# Altium integrated library XMOS xCORE-Analog.IntLib: 24 symbols (part 1 of 3)
Pins are listed as number, name and electrical type; pins without a type are passive.

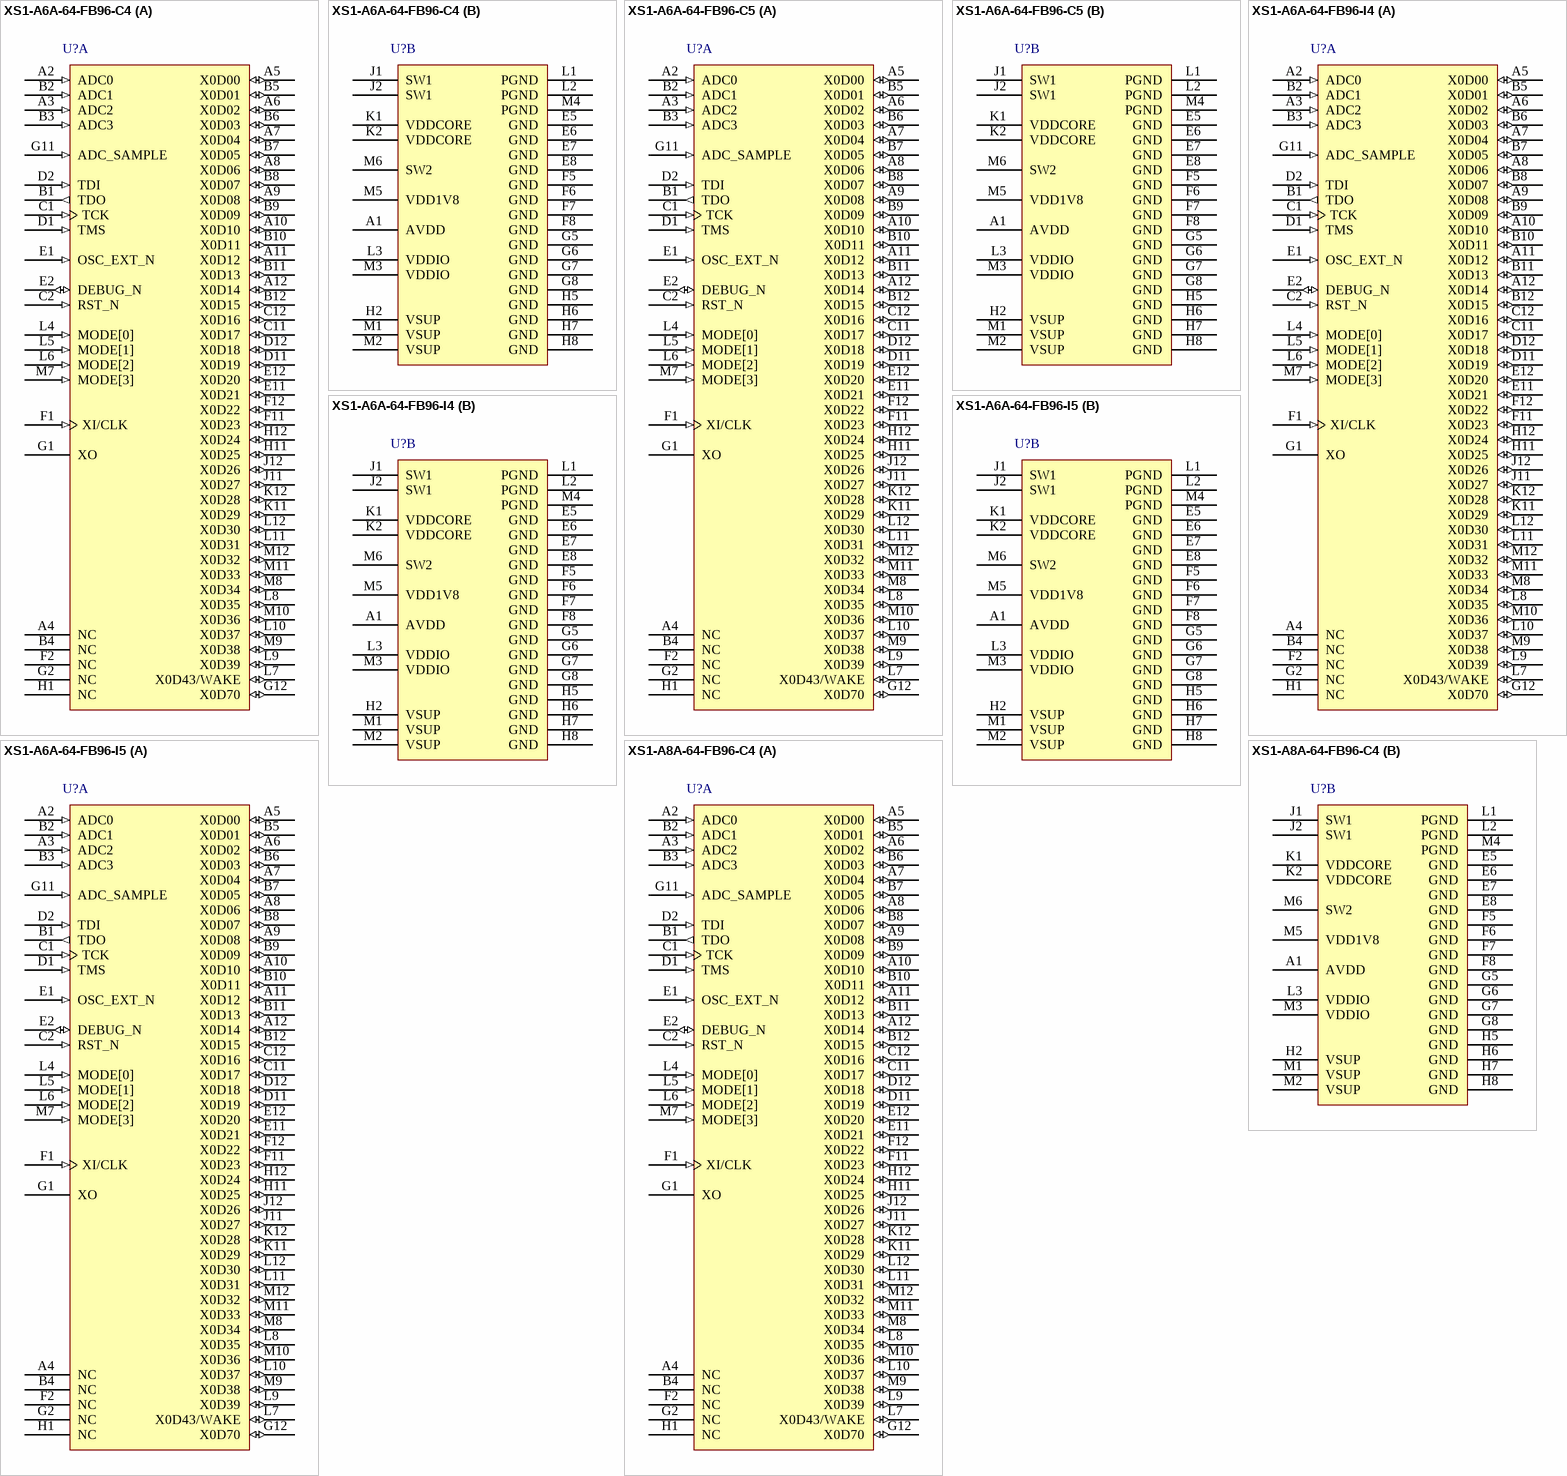
[diagram p0: symbols XS1-A6A-64-FB96-C4 to XS1-A8A-64-FB96-C4]

## XS1-A6A-64-FB96-C4
designator U?
6 Core XS1-A 32-bit Multicore Microcontroller, 42 I/O, 0 to 70 degC, 96-Pin FBGA, Pb-Free; PartNumber: XS1-A6A-64-FB96-C4; Cores/Tiles: 6/1; I/O: 42; RAM: 64 kB; Speed Grade: 400 MIPS; DatasheetVersion: Rev. X9530; PackageReference: FBGA-96; PackageDescription: 96-Pin Fine Ball Grid Array, Body 10 x 10 mm, Pitch 0.8 mm; Temperature Range: 0 to 70 degC; Mounting Technology: Surface Mount; Code_JEDEC: MO-275; ComponentLink1Description: Manufacturer URL; ComponentLink1URL: http://www.xmos.com/; ComponentLink2Description: Datasheet; ComponentLink2URL: https://www.xmos.com/en/download/public/XS1-A6A-64-FB96-Datasheet%28X9530H%29.pdf; ComponentLink3Description: Package Specification; ComponentLink3URL: https://www.xmos.com/en/download/public/XS1-U8A-64-FB96-Datasheet%28X6319F%29.pdf
footprint XMOS-FBGA-96 (BGA, 96-Balls, Body 10x10mm, Pitch 0.8mm)
part A pins: A2 ADC0 (in) "Analog input", A3 ADC2 (in) "Analog input", A4 NC, A5 X0D00 (io), A6 X0D02 (io), A7 X0D04 (io), A8 X0D06 (io), A9 X0D08 (io), A10 X0D10 (io), A11 X0D12 (io), A12 X0D14 (io), B1 TDO (out) "Test data output", B2 ADC1 (in) "Analog input", B3 ADC3 (in) "Analog input", B4 NC, B5 X0D01 (io), B6 X0D03 (io), B7 X0D05 (io), B8 X0D07 (io), B9 X0D09 (io), B10 X0D11 (io), B11 X0D13 (io), B12 X0D15 (io), C1 TCK (in) "Test clock", C2 RST_N (in) "Global reset input", C11 X0D17 (io), C12 X0D16 (io), D1 TMS (in) "Test mode select", D2 TDI (in) "Test data input", D11 X0D19 (io), D12 X0D18 (io), E1 OSC_EXT_N (in) "Use Silicon Oscillator", E2 DEBUG_N (io) "Multi-chip debug", E11 X0D21 (io), E12 X0D20 (io), F1 XI/CLK (in) "Crystal Oscillator/Clock Input", F2 NC, F11 X0D23 (io), F12 X0D22 (io), G1 XO "Crystal Oscillator Output", G2 NC, G11 ADC_SAMPLE (in) "Sample Analog input", G12 X0D70 (io), H1 NC, H11 X0D25 (io), H12 X0D24 (io), J11 X0D27 (io), J12 X0D26 (io), K11 X0D29 (io), K12 X0D28 (io), L4 MODE[0] (in) "Boot mode select", L5 MODE[1] (in) "Boot mode select", L6 MODE[2] (in) "Boot mode select", L7 X0D43/WAKE (io), L8 X0D35 (io), L9 X0D39 (io), L10 X0D37 (io), L11 X0D31 (io), L12 X0D30 (io), M7 MODE[3] (in) "Boot mode select", M8 X0D34 (io), M9 X0D38 (io), M10 X0D36 (io), M11 X0D33 (io), M12 X0D32 (io)
part B pins: A1 AVDD (power) "Supply and reference voltage", E5 GND (power) "Digital ground", E6 GND (power) "Digital ground", E7 GND (power) "Digital ground", E8 GND (power) "Digital ground", F5 GND (power) "Digital ground", F6 GND (power) "Digital ground", F7 GND (power) "Digital ground", F8 GND (power) "Digital ground", G5 GND (power) "Digital ground", G6 GND (power) "Digital ground", G7 GND (power) "Digital ground", G8 GND (power) "Digital ground", H2 VSUP (power) "Power supply (3V3/5V0)", H5 GND (power) "Digital ground", H6 GND (power) "Digital ground", H7 GND (power) "Digital ground", H8 GND (power) "Digital ground", J1 SW1 (power) "DCDC1 switched output voltage", J2 SW1 (power) "DCDC1 switched output voltage", K1 VDDCORE (power) "Core voltage supply", K2 VDDCORE (power) "Core voltage supply", L1 PGND (power) "Power ground", L2 PGND (power) "Power ground", L3 VDDIO (power) "Digital I/O power", M1 VSUP (power) "Power supply (3V3/5V0)", M2 VSUP (power) "Power supply (3V3/5V0)", M3 VDDIO (power) "Digital I/O power", M4 PGND (power) "Power ground", M5 VDD1V8 (power) "1v8 voltage supply", M6 SW2 (power) "DCDC2 switched output voltage"

## XS1-A6A-64-FB96-C5
designator U?
6 Core XS1-A 32-bit Multicore Microcontroller, 42 I/O, 0 to 70 degC, 96-Pin FBGA, Pb-Free; PartNumber: XS1-A6A-64-FB96-C5; Cores/Tiles: 6/1; I/O: 42; RAM: 64 kB; Speed Grade: 500 MIPS; DatasheetVersion: Rev. X9530; PackageReference: FBGA-96; PackageDescription: 96-Pin Fine Ball Grid Array, Body 10 x 10 mm, Pitch 0.8 mm; Temperature Range: 0 to 70 degC; Mounting Technology: Surface Mount; Code_JEDEC: MO-275; ComponentLink1Description: Manufacturer URL; ComponentLink1URL: http://www.xmos.com/; ComponentLink2Description: Datasheet; ComponentLink2URL: https://www.xmos.com/en/download/public/XS1-A6A-64-FB96-Datasheet%28X9530H%29.pdf; ComponentLink3Description: Package Specification; ComponentLink3URL: https://www.xmos.com/en/download/public/XS1-U8A-64-FB96-Datasheet%28X6319F%29.pdf
footprint XMOS-FBGA-96 (BGA, 96-Balls, Body 10x10mm, Pitch 0.8mm)
part A pins: A2 ADC0 (in) "Analog input", A3 ADC2 (in) "Analog input", A4 NC, A5 X0D00 (io), A6 X0D02 (io), A7 X0D04 (io), A8 X0D06 (io), A9 X0D08 (io), A10 X0D10 (io), A11 X0D12 (io), A12 X0D14 (io), B1 TDO (out) "Test data output", B2 ADC1 (in) "Analog input", B3 ADC3 (in) "Analog input", B4 NC, B5 X0D01 (io), B6 X0D03 (io), B7 X0D05 (io), B8 X0D07 (io), B9 X0D09 (io), B10 X0D11 (io), B11 X0D13 (io), B12 X0D15 (io), C1 TCK (in) "Test clock", C2 RST_N (in) "Global reset input", C11 X0D17 (io), C12 X0D16 (io), D1 TMS (in) "Test mode select", D2 TDI (in) "Test data input", D11 X0D19 (io), D12 X0D18 (io), E1 OSC_EXT_N (in) "Use Silicon Oscillator", E2 DEBUG_N (io) "Multi-chip debug", E11 X0D21 (io), E12 X0D20 (io), F1 XI/CLK (in) "Crystal Oscillator/Clock Input", F2 NC, F11 X0D23 (io), F12 X0D22 (io), G1 XO "Crystal Oscillator Output", G2 NC, G11 ADC_SAMPLE (in) "Sample Analog input", G12 X0D70 (io), H1 NC, H11 X0D25 (io), H12 X0D24 (io), J11 X0D27 (io), J12 X0D26 (io), K11 X0D29 (io), K12 X0D28 (io), L4 MODE[0] (in) "Boot mode select", L5 MODE[1] (in) "Boot mode select", L6 MODE[2] (in) "Boot mode select", L7 X0D43/WAKE (io), L8 X0D35 (io), L9 X0D39 (io), L10 X0D37 (io), L11 X0D31 (io), L12 X0D30 (io), M7 MODE[3] (in) "Boot mode select", M8 X0D34 (io), M9 X0D38 (io), M10 X0D36 (io), M11 X0D33 (io), M12 X0D32 (io)
part B pins: A1 AVDD (power) "Supply and reference voltage", E5 GND (power) "Digital ground", E6 GND (power) "Digital ground", E7 GND (power) "Digital ground", E8 GND (power) "Digital ground", F5 GND (power) "Digital ground", F6 GND (power) "Digital ground", F7 GND (power) "Digital ground", F8 GND (power) "Digital ground", G5 GND (power) "Digital ground", G6 GND (power) "Digital ground", G7 GND (power) "Digital ground", G8 GND (power) "Digital ground", H2 VSUP (power) "Power supply (3V3/5V0)", H5 GND (power) "Digital ground", H6 GND (power) "Digital ground", H7 GND (power) "Digital ground", H8 GND (power) "Digital ground", J1 SW1 (power) "DCDC1 switched output voltage", J2 SW1 (power) "DCDC1 switched output voltage", K1 VDDCORE (power) "Core voltage supply", K2 VDDCORE (power) "Core voltage supply", L1 PGND (power) "Power ground", L2 PGND (power) "Power ground", L3 VDDIO (power) "Digital I/O power", M1 VSUP (power) "Power supply (3V3/5V0)", M2 VSUP (power) "Power supply (3V3/5V0)", M3 VDDIO (power) "Digital I/O power", M4 PGND (power) "Power ground", M5 VDD1V8 (power) "1v8 voltage supply", M6 SW2 (power) "DCDC2 switched output voltage"

## XS1-A6A-64-FB96-I4
designator U?
6 Core XS1-A 32-bit Multicore Microcontroller, 42 I/O, -40 to 85 degC, 96-Pin FBGA, Pb-Free; PartNumber: XS1-A6A-64-FB96-I4; Cores/Tiles: 6/1; I/O: 42; RAM: 64 kB; Speed Grade: 400 MIPS; DatasheetVersion: Rev. X9530; PackageReference: FBGA-96; PackageDescription: 96-Pin Fine Ball Grid Array, Body 10 x 10 mm, Pitch 0.8 mm; Temperature Range: -40 to 85 degC; Mounting Technology: Surface Mount; Code_JEDEC: MO-275; ComponentLink1Description: Manufacturer URL; ComponentLink1URL: http://www.xmos.com/; ComponentLink2Description: Datasheet; ComponentLink2URL: https://www.xmos.com/en/download/public/XS1-A6A-64-FB96-Datasheet%28X9530H%29.pdf; ComponentLink3Description: Package Specification; ComponentLink3URL: https://www.xmos.com/en/download/public/XS1-U8A-64-FB96-Datasheet%28X6319F%29.pdf
footprint XMOS-FBGA-96 (BGA, 96-Balls, Body 10x10mm, Pitch 0.8mm)
part A pins: A2 ADC0 (in) "Analog input", A3 ADC2 (in) "Analog input", A4 NC, A5 X0D00 (io), A6 X0D02 (io), A7 X0D04 (io), A8 X0D06 (io), A9 X0D08 (io), A10 X0D10 (io), A11 X0D12 (io), A12 X0D14 (io), B1 TDO (out) "Test data output", B2 ADC1 (in) "Analog input", B3 ADC3 (in) "Analog input", B4 NC, B5 X0D01 (io), B6 X0D03 (io), B7 X0D05 (io), B8 X0D07 (io), B9 X0D09 (io), B10 X0D11 (io), B11 X0D13 (io), B12 X0D15 (io), C1 TCK (in) "Test clock", C2 RST_N (in) "Global reset input", C11 X0D17 (io), C12 X0D16 (io), D1 TMS (in) "Test mode select", D2 TDI (in) "Test data input", D11 X0D19 (io), D12 X0D18 (io), E1 OSC_EXT_N (in) "Use Silicon Oscillator", E2 DEBUG_N (io) "Multi-chip debug", E11 X0D21 (io), E12 X0D20 (io), F1 XI/CLK (in) "Crystal Oscillator/Clock Input", F2 NC, F11 X0D23 (io), F12 X0D22 (io), G1 XO "Crystal Oscillator Output", G2 NC, G11 ADC_SAMPLE (in) "Sample Analog input", G12 X0D70 (io), H1 NC, H11 X0D25 (io), H12 X0D24 (io), J11 X0D27 (io), J12 X0D26 (io), K11 X0D29 (io), K12 X0D28 (io), L4 MODE[0] (in) "Boot mode select", L5 MODE[1] (in) "Boot mode select", L6 MODE[2] (in) "Boot mode select", L7 X0D43/WAKE (io), L8 X0D35 (io), L9 X0D39 (io), L10 X0D37 (io), L11 X0D31 (io), L12 X0D30 (io), M7 MODE[3] (in) "Boot mode select", M8 X0D34 (io), M9 X0D38 (io), M10 X0D36 (io), M11 X0D33 (io), M12 X0D32 (io)
part B pins: A1 AVDD (power) "Supply and reference voltage", E5 GND (power) "Digital ground", E6 GND (power) "Digital ground", E7 GND (power) "Digital ground", E8 GND (power) "Digital ground", F5 GND (power) "Digital ground", F6 GND (power) "Digital ground", F7 GND (power) "Digital ground", F8 GND (power) "Digital ground", G5 GND (power) "Digital ground", G6 GND (power) "Digital ground", G7 GND (power) "Digital ground", G8 GND (power) "Digital ground", H2 VSUP (power) "Power supply (3V3/5V0)", H5 GND (power) "Digital ground", H6 GND (power) "Digital ground", H7 GND (power) "Digital ground", H8 GND (power) "Digital ground", J1 SW1 (power) "DCDC1 switched output voltage", J2 SW1 (power) "DCDC1 switched output voltage", K1 VDDCORE (power) "Core voltage supply", K2 VDDCORE (power) "Core voltage supply", L1 PGND (power) "Power ground", L2 PGND (power) "Power ground", L3 VDDIO (power) "Digital I/O power", M1 VSUP (power) "Power supply (3V3/5V0)", M2 VSUP (power) "Power supply (3V3/5V0)", M3 VDDIO (power) "Digital I/O power", M4 PGND (power) "Power ground", M5 VDD1V8 (power) "1v8 voltage supply", M6 SW2 (power) "DCDC2 switched output voltage"

## XS1-A6A-64-FB96-I5
designator U?
6 Core XS1-A 32-bit Multicore Microcontroller, 42 I/O, -40 to 85 degC, 96-Pin FBGA, Pb-Free; PartNumber: XS1-A6A-64-FB96-I5; Cores/Tiles: 6/1; I/O: 42; RAM: 64 kB; Speed Grade: 500 MIPS; DatasheetVersion: Rev. X9530; PackageReference: FBGA-96; PackageDescription: 96-Pin Fine Ball Grid Array, Body 10 x 10 mm, Pitch 0.8 mm; Temperature Range: -40 to 85 degC; Mounting Technology: Surface Mount; Code_JEDEC: MO-275; ComponentLink1Description: Manufacturer URL; ComponentLink1URL: http://www.xmos.com/; ComponentLink2Description: Datasheet; ComponentLink2URL: https://www.xmos.com/en/download/public/XS1-A6A-64-FB96-Datasheet%28X9530H%29.pdf; ComponentLink3Description: Package Specification; ComponentLink3URL: https://www.xmos.com/en/download/public/XS1-U8A-64-FB96-Datasheet%28X6319F%29.pdf
footprint XMOS-FBGA-96 (BGA, 96-Balls, Body 10x10mm, Pitch 0.8mm)
part A pins: A2 ADC0 (in) "Analog input", A3 ADC2 (in) "Analog input", A4 NC, A5 X0D00 (io), A6 X0D02 (io), A7 X0D04 (io), A8 X0D06 (io), A9 X0D08 (io), A10 X0D10 (io), A11 X0D12 (io), A12 X0D14 (io), B1 TDO (out) "Test data output", B2 ADC1 (in) "Analog input", B3 ADC3 (in) "Analog input", B4 NC, B5 X0D01 (io), B6 X0D03 (io), B7 X0D05 (io), B8 X0D07 (io), B9 X0D09 (io), B10 X0D11 (io), B11 X0D13 (io), B12 X0D15 (io), C1 TCK (in) "Test clock", C2 RST_N (in) "Global reset input", C11 X0D17 (io), C12 X0D16 (io), D1 TMS (in) "Test mode select", D2 TDI (in) "Test data input", D11 X0D19 (io), D12 X0D18 (io), E1 OSC_EXT_N (in) "Use Silicon Oscillator", E2 DEBUG_N (io) "Multi-chip debug", E11 X0D21 (io), E12 X0D20 (io), F1 XI/CLK (in) "Crystal Oscillator/Clock Input", F2 NC, F11 X0D23 (io), F12 X0D22 (io), G1 XO "Crystal Oscillator Output", G2 NC, G11 ADC_SAMPLE (in) "Sample Analog input", G12 X0D70 (io), H1 NC, H11 X0D25 (io), H12 X0D24 (io), J11 X0D27 (io), J12 X0D26 (io), K11 X0D29 (io), K12 X0D28 (io), L4 MODE[0] (in) "Boot mode select", L5 MODE[1] (in) "Boot mode select", L6 MODE[2] (in) "Boot mode select", L7 X0D43/WAKE (io), L8 X0D35 (io), L9 X0D39 (io), L10 X0D37 (io), L11 X0D31 (io), L12 X0D30 (io), M7 MODE[3] (in) "Boot mode select", M8 X0D34 (io), M9 X0D38 (io), M10 X0D36 (io), M11 X0D33 (io), M12 X0D32 (io)
part B pins: A1 AVDD (power) "Supply and reference voltage", E5 GND (power) "Digital ground", E6 GND (power) "Digital ground", E7 GND (power) "Digital ground", E8 GND (power) "Digital ground", F5 GND (power) "Digital ground", F6 GND (power) "Digital ground", F7 GND (power) "Digital ground", F8 GND (power) "Digital ground", G5 GND (power) "Digital ground", G6 GND (power) "Digital ground", G7 GND (power) "Digital ground", G8 GND (power) "Digital ground", H2 VSUP (power) "Power supply (3V3/5V0)", H5 GND (power) "Digital ground", H6 GND (power) "Digital ground", H7 GND (power) "Digital ground", H8 GND (power) "Digital ground", J1 SW1 (power) "DCDC1 switched output voltage", J2 SW1 (power) "DCDC1 switched output voltage", K1 VDDCORE (power) "Core voltage supply", K2 VDDCORE (power) "Core voltage supply", L1 PGND (power) "Power ground", L2 PGND (power) "Power ground", L3 VDDIO (power) "Digital I/O power", M1 VSUP (power) "Power supply (3V3/5V0)", M2 VSUP (power) "Power supply (3V3/5V0)", M3 VDDIO (power) "Digital I/O power", M4 PGND (power) "Power ground", M5 VDD1V8 (power) "1v8 voltage supply", M6 SW2 (power) "DCDC2 switched output voltage"

## XS1-A8A-64-FB96-C4
designator U?
8 Core XS1-A 32-bit Multicore Microcontroller, 42 I/O, 0 to 70 degC, 96-Pin FBGA, Pb-Free; PartNumber: XS1-A8A-64-FB96-C4; Cores/Tiles: 8/1; I/O: 42; RAM: 64 kB; Speed Grade: 400 MIPS; DatasheetVersion: Rev. X5391; PackageReference: FBGA-96; PackageDescription: 96-Pin Fine Ball Grid Array, Body 10 x 10 mm, Pitch 0.8 mm; Temperature Range: 0 to 70 degC; Mounting Technology: Surface Mount; Code_JEDEC: MO-275; ComponentLink1Description: Manufacturer URL; ComponentLink1URL: http://www.xmos.com/; ComponentLink2Description: Datasheet; ComponentLink2URL: https://www.xmos.com/en/download/public/XS1-A8A-64-FB96-Datasheet%28X5391H%29.pdf; ComponentLink3Description: Package Specification; ComponentLink3URL: https://www.xmos.com/en/download/public/XS1-U8A-64-FB96-Datasheet%28X6319F%29.pdf
footprint XMOS-FBGA-96 (BGA, 96-Balls, Body 10x10mm, Pitch 0.8mm)
part A pins: A2 ADC0 (in) "Analog input", A3 ADC2 (in) "Analog input", A4 NC, A5 X0D00 (io), A6 X0D02 (io), A7 X0D04 (io), A8 X0D06 (io), A9 X0D08 (io), A10 X0D10 (io), A11 X0D12 (io), A12 X0D14 (io), B1 TDO (out) "Test data output", B2 ADC1 (in) "Analog input", B3 ADC3 (in) "Analog input", B4 NC, B5 X0D01 (io), B6 X0D03 (io), B7 X0D05 (io), B8 X0D07 (io), B9 X0D09 (io), B10 X0D11 (io), B11 X0D13 (io), B12 X0D15 (io), C1 TCK (in) "Test clock", C2 RST_N (in) "Global reset input", C11 X0D17 (io), C12 X0D16 (io), D1 TMS (in) "Test mode select", D2 TDI (in) "Test data input", D11 X0D19 (io), D12 X0D18 (io), E1 OSC_EXT_N (in) "Use Silicon Oscillator", E2 DEBUG_N (io) "Multi-chip debug", E11 X0D21 (io), E12 X0D20 (io), F1 XI/CLK (in) "Crystal Oscillator/Clock Input", F2 NC, F11 X0D23 (io), F12 X0D22 (io), G1 XO "Crystal Oscillator Output", G2 NC, G11 ADC_SAMPLE (in) "Sample Analog input", G12 X0D70 (io), H1 NC, H11 X0D25 (io), H12 X0D24 (io), J11 X0D27 (io), J12 X0D26 (io), K11 X0D29 (io), K12 X0D28 (io), L4 MODE[0] (in) "Boot mode select", L5 MODE[1] (in) "Boot mode select", L6 MODE[2] (in) "Boot mode select", L7 X0D43/WAKE (io), L8 X0D35 (io), L9 X0D39 (io), L10 X0D37 (io), L11 X0D31 (io), L12 X0D30 (io), M7 MODE[3] (in) "Boot mode select", M8 X0D34 (io), M9 X0D38 (io), M10 X0D36 (io), M11 X0D33 (io), M12 X0D32 (io)
part B pins: A1 AVDD (power) "Supply and reference voltage", E5 GND (power) "Digital ground", E6 GND (power) "Digital ground", E7 GND (power) "Digital ground", E8 GND (power) "Digital ground", F5 GND (power) "Digital ground", F6 GND (power) "Digital ground", F7 GND (power) "Digital ground", F8 GND (power) "Digital ground", G5 GND (power) "Digital ground", G6 GND (power) "Digital ground", G7 GND (power) "Digital ground", G8 GND (power) "Digital ground", H2 VSUP (power) "Power supply (3V3/5V0)", H5 GND (power) "Digital ground", H6 GND (power) "Digital ground", H7 GND (power) "Digital ground", H8 GND (power) "Digital ground", J1 SW1 (power) "DCDC1 switched output voltage", J2 SW1 (power) "DCDC1 switched output voltage", K1 VDDCORE (power) "Core voltage supply", K2 VDDCORE (power) "Core voltage supply", L1 PGND (power) "Power ground", L2 PGND (power) "Power ground", L3 VDDIO (power) "Digital I/O power", M1 VSUP (power) "Power supply (3V3/5V0)", M2 VSUP (power) "Power supply (3V3/5V0)", M3 VDDIO (power) "Digital I/O power", M4 PGND (power) "Power ground", M5 VDD1V8 (power) "1v8 voltage supply", M6 SW2 (power) "DCDC2 switched output voltage"

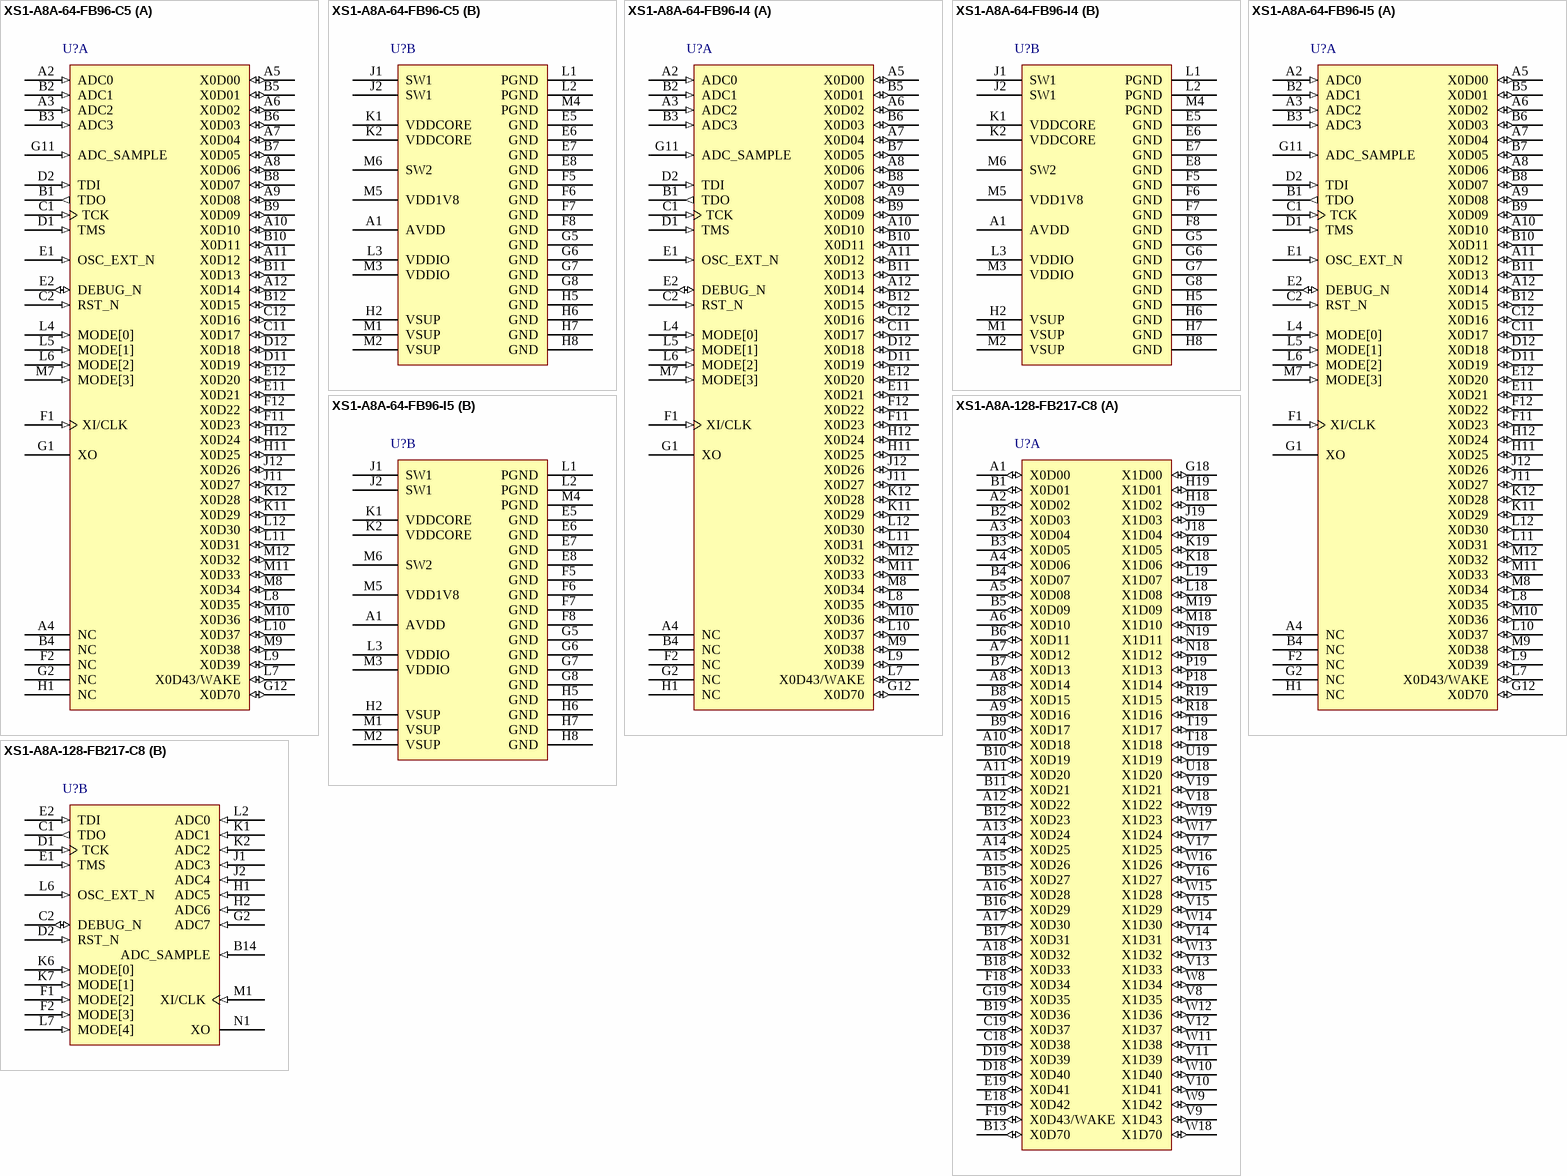
[diagram p1: symbols XS1-A8A-64-FB96-C5 to XS1-A8A-128-FB217-C8]

## XS1-A8A-64-FB96-C5
designator U?
8 Core XS1-A 32-bit Multicore Microcontroller, 42 I/O, 0 to 70 degC, 96-Pin FBGA, Pb-Free; PartNumber: XS1-A8A-64-FB96-C5; Cores/Tiles: 8/1; I/O: 42; RAM: 64 kB; Speed Grade: 500 MIPS; DatasheetVersion: Rev. X5391; PackageReference: FBGA-96; PackageDescription: 96-Pin Fine Ball Grid Array, Body 10 x 10 mm, Pitch 0.8 mm; Temperature Range: 0 to 70 degC; Mounting Technology: Surface Mount; Code_JEDEC: MO-275; ComponentLink1Description: Manufacturer URL; ComponentLink1URL: http://www.xmos.com/; ComponentLink2Description: Datasheet; ComponentLink2URL: https://www.xmos.com/en/download/public/XS1-A8A-64-FB96-Datasheet%28X5391H%29.pdf; ComponentLink3Description: Package Specification; ComponentLink3URL: https://www.xmos.com/en/download/public/XS1-U8A-64-FB96-Datasheet%28X6319F%29.pdf
footprint XMOS-FBGA-96 (BGA, 96-Balls, Body 10x10mm, Pitch 0.8mm)
part A pins: A2 ADC0 (in) "Analog input", A3 ADC2 (in) "Analog input", A4 NC, A5 X0D00 (io), A6 X0D02 (io), A7 X0D04 (io), A8 X0D06 (io), A9 X0D08 (io), A10 X0D10 (io), A11 X0D12 (io), A12 X0D14 (io), B1 TDO (out) "Test data output", B2 ADC1 (in) "Analog input", B3 ADC3 (in) "Analog input", B4 NC, B5 X0D01 (io), B6 X0D03 (io), B7 X0D05 (io), B8 X0D07 (io), B9 X0D09 (io), B10 X0D11 (io), B11 X0D13 (io), B12 X0D15 (io), C1 TCK (in) "Test clock", C2 RST_N (in) "Global reset input", C11 X0D17 (io), C12 X0D16 (io), D1 TMS (in) "Test mode select", D2 TDI (in) "Test data input", D11 X0D19 (io), D12 X0D18 (io), E1 OSC_EXT_N (in) "Use Silicon Oscillator", E2 DEBUG_N (io) "Multi-chip debug", E11 X0D21 (io), E12 X0D20 (io), F1 XI/CLK (in) "Crystal Oscillator/Clock Input", F2 NC, F11 X0D23 (io), F12 X0D22 (io), G1 XO "Crystal Oscillator Output", G2 NC, G11 ADC_SAMPLE (in) "Sample Analog input", G12 X0D70 (io), H1 NC, H11 X0D25 (io), H12 X0D24 (io), J11 X0D27 (io), J12 X0D26 (io), K11 X0D29 (io), K12 X0D28 (io), L4 MODE[0] (in) "Boot mode select", L5 MODE[1] (in) "Boot mode select", L6 MODE[2] (in) "Boot mode select", L7 X0D43/WAKE (io), L8 X0D35 (io), L9 X0D39 (io), L10 X0D37 (io), L11 X0D31 (io), L12 X0D30 (io), M7 MODE[3] (in) "Boot mode select", M8 X0D34 (io), M9 X0D38 (io), M10 X0D36 (io), M11 X0D33 (io), M12 X0D32 (io)
part B pins: A1 AVDD (power) "Supply and reference voltage", E5 GND (power) "Digital ground", E6 GND (power) "Digital ground", E7 GND (power) "Digital ground", E8 GND (power) "Digital ground", F5 GND (power) "Digital ground", F6 GND (power) "Digital ground", F7 GND (power) "Digital ground", F8 GND (power) "Digital ground", G5 GND (power) "Digital ground", G6 GND (power) "Digital ground", G7 GND (power) "Digital ground", G8 GND (power) "Digital ground", H2 VSUP (power) "Power supply (3V3/5V0)", H5 GND (power) "Digital ground", H6 GND (power) "Digital ground", H7 GND (power) "Digital ground", H8 GND (power) "Digital ground", J1 SW1 (power) "DCDC1 switched output voltage", J2 SW1 (power) "DCDC1 switched output voltage", K1 VDDCORE (power) "Core voltage supply", K2 VDDCORE (power) "Core voltage supply", L1 PGND (power) "Power ground", L2 PGND (power) "Power ground", L3 VDDIO (power) "Digital I/O power", M1 VSUP (power) "Power supply (3V3/5V0)", M2 VSUP (power) "Power supply (3V3/5V0)", M3 VDDIO (power) "Digital I/O power", M4 PGND (power) "Power ground", M5 VDD1V8 (power) "1v8 voltage supply", M6 SW2 (power) "DCDC2 switched output voltage"

## XS1-A8A-64-FB96-I4
designator U?
8 Core XS1-A 32-bit Multicore Microcontroller, 42 I/O, -40 to 85 degC, 96-Pin FBGA, Pb-Free; PartNumber: XS1-A8A-64-FB96-I4; Cores/Tiles: 8/1; I/O: 42; RAM: 64 kB; Speed Grade: 400 MIPS; DatasheetVersion: Rev. X5391; PackageReference: FBGA-96; PackageDescription: 96-Pin Fine Ball Grid Array, Body 10 x 10 mm, Pitch 0.8 mm; Temperature Range: -40 to 85 degC; Mounting Technology: Surface Mount; Code_JEDEC: MO-275; ComponentLink1Description: Manufacturer URL; ComponentLink1URL: http://www.xmos.com/; ComponentLink2Description: Datasheet; ComponentLink2URL: https://www.xmos.com/en/download/public/XS1-A8A-64-FB96-Datasheet%28X5391H%29.pdf; ComponentLink3Description: Package Specification; ComponentLink3URL: https://www.xmos.com/en/download/public/XS1-U8A-64-FB96-Datasheet%28X6319F%29.pdf
footprint XMOS-FBGA-96 (BGA, 96-Balls, Body 10x10mm, Pitch 0.8mm)
part A pins: A2 ADC0 (in) "Analog input", A3 ADC2 (in) "Analog input", A4 NC, A5 X0D00 (io), A6 X0D02 (io), A7 X0D04 (io), A8 X0D06 (io), A9 X0D08 (io), A10 X0D10 (io), A11 X0D12 (io), A12 X0D14 (io), B1 TDO (out) "Test data output", B2 ADC1 (in) "Analog input", B3 ADC3 (in) "Analog input", B4 NC, B5 X0D01 (io), B6 X0D03 (io), B7 X0D05 (io), B8 X0D07 (io), B9 X0D09 (io), B10 X0D11 (io), B11 X0D13 (io), B12 X0D15 (io), C1 TCK (in) "Test clock", C2 RST_N (in) "Global reset input", C11 X0D17 (io), C12 X0D16 (io), D1 TMS (in) "Test mode select", D2 TDI (in) "Test data input", D11 X0D19 (io), D12 X0D18 (io), E1 OSC_EXT_N (in) "Use Silicon Oscillator", E2 DEBUG_N (io) "Multi-chip debug", E11 X0D21 (io), E12 X0D20 (io), F1 XI/CLK (in) "Crystal Oscillator/Clock Input", F2 NC, F11 X0D23 (io), F12 X0D22 (io), G1 XO "Crystal Oscillator Output", G2 NC, G11 ADC_SAMPLE (in) "Sample Analog input", G12 X0D70 (io), H1 NC, H11 X0D25 (io), H12 X0D24 (io), J11 X0D27 (io), J12 X0D26 (io), K11 X0D29 (io), K12 X0D28 (io), L4 MODE[0] (in) "Boot mode select", L5 MODE[1] (in) "Boot mode select", L6 MODE[2] (in) "Boot mode select", L7 X0D43/WAKE (io), L8 X0D35 (io), L9 X0D39 (io), L10 X0D37 (io), L11 X0D31 (io), L12 X0D30 (io), M7 MODE[3] (in) "Boot mode select", M8 X0D34 (io), M9 X0D38 (io), M10 X0D36 (io), M11 X0D33 (io), M12 X0D32 (io)
part B pins: A1 AVDD (power) "Supply and reference voltage", E5 GND (power) "Digital ground", E6 GND (power) "Digital ground", E7 GND (power) "Digital ground", E8 GND (power) "Digital ground", F5 GND (power) "Digital ground", F6 GND (power) "Digital ground", F7 GND (power) "Digital ground", F8 GND (power) "Digital ground", G5 GND (power) "Digital ground", G6 GND (power) "Digital ground", G7 GND (power) "Digital ground", G8 GND (power) "Digital ground", H2 VSUP (power) "Power supply (3V3/5V0)", H5 GND (power) "Digital ground", H6 GND (power) "Digital ground", H7 GND (power) "Digital ground", H8 GND (power) "Digital ground", J1 SW1 (power) "DCDC1 switched output voltage", J2 SW1 (power) "DCDC1 switched output voltage", K1 VDDCORE (power) "Core voltage supply", K2 VDDCORE (power) "Core voltage supply", L1 PGND (power) "Power ground", L2 PGND (power) "Power ground", L3 VDDIO (power) "Digital I/O power", M1 VSUP (power) "Power supply (3V3/5V0)", M2 VSUP (power) "Power supply (3V3/5V0)", M3 VDDIO (power) "Digital I/O power", M4 PGND (power) "Power ground", M5 VDD1V8 (power) "1v8 voltage supply", M6 SW2 (power) "DCDC2 switched output voltage"

## XS1-A8A-64-FB96-I5
designator U?
8 Core XS1-A 32-bit Multicore Microcontroller, 42 I/O, -40 to 85 degC, 96-Pin FBGA, Pb-Free; PartNumber: XS1-A8A-64-FB96-I5; Cores/Tiles: 8/1; I/O: 42; RAM: 64 kB; Speed Grade: 500 MIPS; DatasheetVersion: Rev. X5391; PackageReference: FBGA-96; PackageDescription: 96-Pin Fine Ball Grid Array, Body 10 x 10 mm, Pitch 0.8 mm; Temperature Range: -40 to 85 degC; Mounting Technology: Surface Mount; Code_JEDEC: MO-275; ComponentLink1Description: Manufacturer URL; ComponentLink1URL: http://www.xmos.com/; ComponentLink2Description: Datasheet; ComponentLink2URL: https://www.xmos.com/en/download/public/XS1-A8A-64-FB96-Datasheet%28X5391H%29.pdf; ComponentLink3Description: Package Specification; ComponentLink3URL: https://www.xmos.com/en/download/public/XS1-U8A-64-FB96-Datasheet%28X6319F%29.pdf
footprint XMOS-FBGA-96 (BGA, 96-Balls, Body 10x10mm, Pitch 0.8mm)
part A pins: A2 ADC0 (in) "Analog input", A3 ADC2 (in) "Analog input", A4 NC, A5 X0D00 (io), A6 X0D02 (io), A7 X0D04 (io), A8 X0D06 (io), A9 X0D08 (io), A10 X0D10 (io), A11 X0D12 (io), A12 X0D14 (io), B1 TDO (out) "Test data output", B2 ADC1 (in) "Analog input", B3 ADC3 (in) "Analog input", B4 NC, B5 X0D01 (io), B6 X0D03 (io), B7 X0D05 (io), B8 X0D07 (io), B9 X0D09 (io), B10 X0D11 (io), B11 X0D13 (io), B12 X0D15 (io), C1 TCK (in) "Test clock", C2 RST_N (in) "Global reset input", C11 X0D17 (io), C12 X0D16 (io), D1 TMS (in) "Test mode select", D2 TDI (in) "Test data input", D11 X0D19 (io), D12 X0D18 (io), E1 OSC_EXT_N (in) "Use Silicon Oscillator", E2 DEBUG_N (io) "Multi-chip debug", E11 X0D21 (io), E12 X0D20 (io), F1 XI/CLK (in) "Crystal Oscillator/Clock Input", F2 NC, F11 X0D23 (io), F12 X0D22 (io), G1 XO "Crystal Oscillator Output", G2 NC, G11 ADC_SAMPLE (in) "Sample Analog input", G12 X0D70 (io), H1 NC, H11 X0D25 (io), H12 X0D24 (io), J11 X0D27 (io), J12 X0D26 (io), K11 X0D29 (io), K12 X0D28 (io), L4 MODE[0] (in) "Boot mode select", L5 MODE[1] (in) "Boot mode select", L6 MODE[2] (in) "Boot mode select", L7 X0D43/WAKE (io), L8 X0D35 (io), L9 X0D39 (io), L10 X0D37 (io), L11 X0D31 (io), L12 X0D30 (io), M7 MODE[3] (in) "Boot mode select", M8 X0D34 (io), M9 X0D38 (io), M10 X0D36 (io), M11 X0D33 (io), M12 X0D32 (io)
part B pins: A1 AVDD (power) "Supply and reference voltage", E5 GND (power) "Digital ground", E6 GND (power) "Digital ground", E7 GND (power) "Digital ground", E8 GND (power) "Digital ground", F5 GND (power) "Digital ground", F6 GND (power) "Digital ground", F7 GND (power) "Digital ground", F8 GND (power) "Digital ground", G5 GND (power) "Digital ground", G6 GND (power) "Digital ground", G7 GND (power) "Digital ground", G8 GND (power) "Digital ground", H2 VSUP (power) "Power supply (3V3/5V0)", H5 GND (power) "Digital ground", H6 GND (power) "Digital ground", H7 GND (power) "Digital ground", H8 GND (power) "Digital ground", J1 SW1 (power) "DCDC1 switched output voltage", J2 SW1 (power) "DCDC1 switched output voltage", K1 VDDCORE (power) "Core voltage supply", K2 VDDCORE (power) "Core voltage supply", L1 PGND (power) "Power ground", L2 PGND (power) "Power ground", L3 VDDIO (power) "Digital I/O power", M1 VSUP (power) "Power supply (3V3/5V0)", M2 VSUP (power) "Power supply (3V3/5V0)", M3 VDDIO (power) "Digital I/O power", M4 PGND (power) "Power ground", M5 VDD1V8 (power) "1v8 voltage supply", M6 SW2 (power) "DCDC2 switched output voltage"

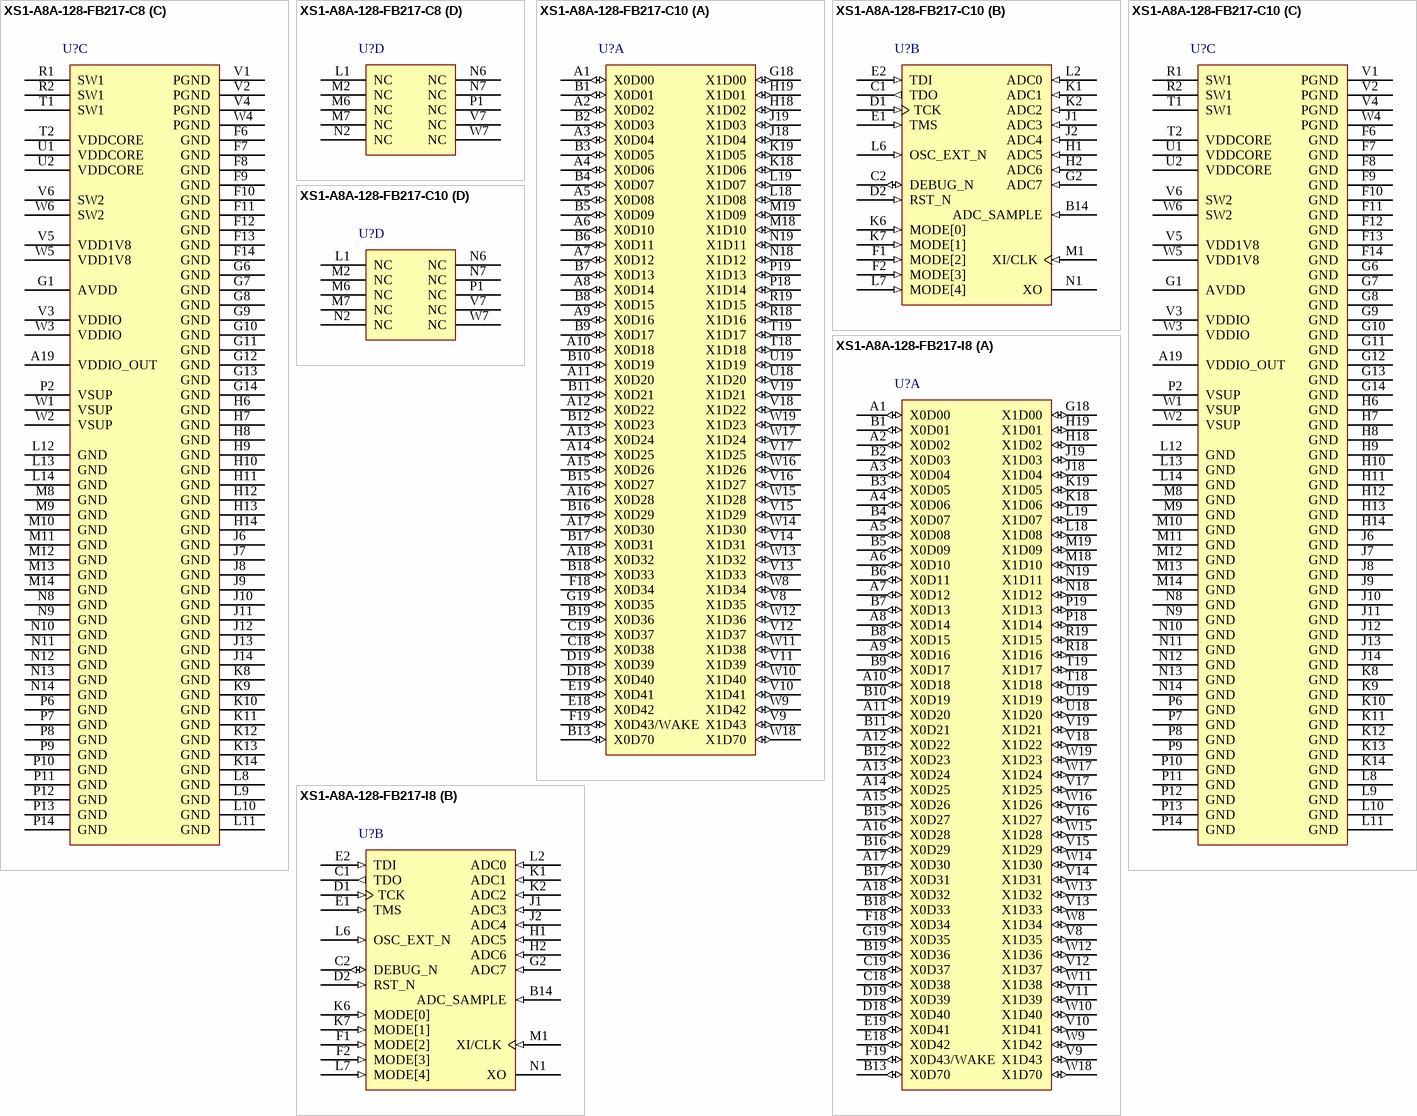
[diagram p2: symbols XS1-A8A-128-FB217-C8 to XS1-A8A-128-FB217-I8]

## XS1-A8A-128-FB217-C8
designator U?
8 Core XS1-A 32-bit Multicore Microcontroller, 90 I/O, 0 to 70 degC, 217-Pin FBGA, Pb-Free; PartNumber: XS1-A8A-128-FB217-C8; Cores/Tiles: 8/2; I/O: 90; RAM: 128 kB; Speed Grade: 800 MIPS; DatasheetVersion: Rev. X5601; PackageReference: FBGA-217; PackageDescription: 217-Pin Fine Ball Grid Array, Body 16 x 16 mm, Pitch 0.8 mm; Temperature Range: 0 to 70 degC; Mounting Technology: Surface Mount; Code_JEDEC: MO-275; ComponentLink1Description: Manufacturer URL; ComponentLink1URL: http://www.xmos.com/; ComponentLink2Description: Datasheet; ComponentLink2URL: https://www.xmos.com/en/download/public/XS1-A8A-128-FB217-Datasheet%28X5601H%29.pdf; ComponentLink3Description: Package Specification; ComponentLink3URL: https://www.xmos.com/en/download/public/XS1-A16A-128-FB217-Datasheet%28X5719H%29.pdf
footprint XMOS-FBGA-217 (BGA, 217-Balls, Body 16x16mm, Pitch 0.8mm)
part A pins: A1 X0D00 (io), A2 X0D02 (io), A3 X0D04 (io), A4 X0D06 (io), A5 X0D08 (io), A6 X0D10 (io), A7 X0D12 (io), A8 X0D14 (io), A9 X0D16 (io), A10 X0D18 (io), A11 X0D20 (io), A12 X0D22 (io), A13 X0D24 (io), A14 X0D25 (io), A15 X0D26 (io), A16 X0D28 (io), A17 X0D30 (io), A18 X0D32 (io), B1 X0D01 (io), B2 X0D03 (io), B3 X0D05 (io), B4 X0D07 (io), B5 X0D09 (io), B6 X0D11 (io), B7 X0D13 (io), B8 X0D15 (io), B9 X0D17 (io), B10 X0D19 (io), B11 X0D21 (io), B12 X0D23 (io), B13 X0D70 (io), B15 X0D27 (io), B16 X0D29 (io), B17 X0D31 (io), B18 X0D33 (io), B19 X0D36 (io), C18 X0D38 (io), C19 X0D37 (io), D18 X0D40 (io), D19 X0D39 (io), E18 X0D42 (io), E19 X0D41 (io), F18 X0D34 (io), F19 X0D43/WAKE (io), G18 X1D00 (io), G19 X0D35 (io), H18 X1D02 (io), H19 X1D01 (io), J18 X1D04 (io), J19 X1D03 (io), K18 X1D06 (io), K19 X1D05 (io), L18 X1D08 (io), L19 X1D07 (io), M18 X1D10 (io), M19 X1D09 (io), N18 X1D12 (io), N19 X1D11 (io), P18 X1D14 (io), P19 X1D13 (io), R18 X1D16 (io), R19 X1D15 (io), T18 X1D18 (io), T19 X1D17 (io), U18 X1D20 (io), U19 X1D19 (io), V8 X1D35 (io), V9 X1D43 (io), V10 X1D41 (io), V11 X1D39 (io), V12 X1D37 (io), V13 X1D33 (io), V14 X1D31 (io), V15 X1D29 (io), V16 X1D27 (io), V17 X1D25 (io), V18 X1D22 (io), V19 X1D21 (io), W8 X1D34 (io), W9 X1D42 (io), W10 X1D40 (io), W11 X1D38 (io), W12 X1D36 (io), W13 X1D32 (io), W14 X1D30 (io), W15 X1D28 (io), W16 X1D26 (io), W17 X1D24 (io), W18 X1D70 (io), W19 X1D23 (io)
part B pins: B14 ADC_SAMPLE (in) "Sample Analog input", C1 TDO (out) "Test data output", C2 DEBUG_N (io) "Multi-chip debug", D1 TCK (in) "Test clock", D2 RST_N (in) "Global reset input", E1 TMS (in) "Test mode select", E2 TDI (in) "Test data input", F1 MODE[2] (in) "Boot mode select", F2 MODE[3] (in) "Boot mode select", G2 ADC7 (in) "Analog input", H1 ADC5 (in) "Analog input", H2 ADC6 (in) "Analog input", J1 ADC3 (in) "Analog input", J2 ADC4 (in) "Analog input", K1 ADC1 (in) "Analog input", K2 ADC2 (in) "Analog input", K6 MODE[0] (in) "Boot mode select", K7 MODE[1] (in) "Boot mode select", L2 ADC0 (in) "Analog input", L6 OSC_EXT_N (in) "Use Silicon Oscillator", L7 MODE[4] (in) "Boot mode select", M1 XI/CLK (in) "Crystal Oscillator/Clock Input", N1 XO "Crystal Oscillator Output"
part C pins: A19 VDDIO_OUT (power) "Digital I/O power out", F6 GND (power) "Digital ground", F7 GND (power) "Digital ground", F8 GND (power) "Digital ground", F9 GND (power) "Digital ground", F10 GND (power) "Digital ground", F11 GND (power) "Digital ground", F12 GND (power) "Digital ground", F13 GND (power) "Digital ground", F14 GND (power) "Digital ground", G1 AVDD (power) "Supply and reference voltage", G6 GND (power) "Digital ground", G7 GND (power) "Digital ground", G8 GND (power) "Digital ground", G9 GND (power) "Digital ground", G10 GND (power) "Digital ground", G11 GND (power) "Digital ground", G12 GND (power) "Digital ground", G13 GND (power) "Digital ground", G14 GND (power) "Digital ground", H6 GND (power) "Digital ground", H7 GND (power) "Digital ground", H8 GND (power) "Digital ground", H9 GND (power) "Digital ground", H10 GND (power) "Digital ground", H11 GND (power) "Digital ground", H12 GND (power) "Digital ground", H13 GND (power) "Digital ground", H14 GND (power) "Digital ground", J6 GND (power) "Digital ground", J7 GND (power) "Digital ground", J8 GND (power) "Digital ground", J9 GND (power) "Digital ground", J10 GND (power) "Digital ground", J11 GND (power) "Digital ground", J12 GND (power) "Digital ground", J13 GND (power) "Digital ground", J14 GND (power) "Digital ground", K8 GND (power) "Digital ground", K9 GND (power) "Digital ground", K10 GND (power) "Digital ground", K11 GND (power) "Digital ground", K12 GND (power) "Digital ground", K13 GND (power) "Digital ground", K14 GND (power) "Digital ground", L8 GND (power) "Digital ground", L9 GND (power) "Digital ground", L10 GND (power) "Digital ground", L11 GND (power) "Digital ground", L12 GND (power) "Digital ground", L13 GND (power) "Digital ground", L14 GND (power) "Digital ground", M8 GND (power) "Digital ground", M9 GND (power) "Digital ground", M10 GND (power) "Digital ground", M11 GND (power) "Digital ground", M12 GND (power) "Digital ground", M13 GND (power) "Digital ground", M14 GND (power) "Digital ground", N8 GND (power) "Digital ground", N9 GND (power) "Digital ground", N10 GND (power) "Digital ground", N11 GND (power) "Digital ground", N12 GND (power) "Digital ground", N13 GND (power) "Digital ground", N14 GND (power) "Digital ground", P2 VSUP (power) "Power supply (3V3/5V0)", P6 GND (power) "Digital ground", P7 GND (power) "Digital ground", P8 GND (power) "Digital ground", P9 GND (power) "Digital ground", P10 GND (power) "Digital ground", P11 GND (power) "Digital ground", P12 GND (power) "Digital ground", P13 GND (power) "Digital ground", P14 GND (power) "Digital ground", R1 SW1 (power) "DCDC1 switched output voltage", R2 SW1 (power) "DCDC1 switched output voltage", T1 SW1 (power) "DCDC1 switched output voltage", T2 VDDCORE (power) "Core voltage supply", U1 VDDCORE (power) "Core voltage supply", U2 VDDCORE (power) "Core voltage supply", V1 PGND (power) "Power ground", V2 PGND (power) "Power ground", V3 VDDIO (power) "Digital I/O power", V4 PGND (power) "Power ground", V5 VDD1V8 (power) "1v8 voltage supply", V6 SW2 (power) "DCDC2 switched output voltage", W1 VSUP (power) "Power supply (3V3/5V0)", W2 VSUP (power) "Power supply (3V3/5V0)", W3 VDDIO (power) "Digital I/O power", W4 PGND (power) "Power ground", W5 VDD1V8 (power) "1v8 voltage supply", W6 SW2 (power) "DCDC2 switched output voltage"
part D pins: L1 NC, M2 NC, M6 NC, M7 NC, N2 NC, N6 NC, N7 NC, P1 NC, V7 NC, W7 NC

## XS1-A8A-128-FB217-C10
designator U?
8 Core XS1-A 32-bit Multicore Microcontroller, 90 I/O, 0 to 70 degC, 217-Pin FBGA, Pb-Free; PartNumber: XS1-A8A-128-FB217-C10; Cores/Tiles: 8/2; I/O: 90; RAM: 128 kB; Speed Grade: 1000 MIPS; DatasheetVersion: Rev. X5601; PackageReference: FBGA-217; PackageDescription: 217-Pin Fine Ball Grid Array, Body 16 x 16 mm, Pitch 0.8 mm; Temperature Range: 0 to 70 degC; Mounting Technology: Surface Mount; Code_JEDEC: MO-275; ComponentLink1Description: Manufacturer URL; ComponentLink1URL: http://www.xmos.com/; ComponentLink2Description: Datasheet; ComponentLink2URL: https://www.xmos.com/en/download/public/XS1-A8A-128-FB217-Datasheet%28X5601H%29.pdf; ComponentLink3Description: Package Specification; ComponentLink3URL: https://www.xmos.com/en/download/public/XS1-A16A-128-FB217-Datasheet%28X5719H%29.pdf
footprint XMOS-FBGA-217 (BGA, 217-Balls, Body 16x16mm, Pitch 0.8mm)
part A pins: A1 X0D00 (io), A2 X0D02 (io), A3 X0D04 (io), A4 X0D06 (io), A5 X0D08 (io), A6 X0D10 (io), A7 X0D12 (io), A8 X0D14 (io), A9 X0D16 (io), A10 X0D18 (io), A11 X0D20 (io), A12 X0D22 (io), A13 X0D24 (io), A14 X0D25 (io), A15 X0D26 (io), A16 X0D28 (io), A17 X0D30 (io), A18 X0D32 (io), B1 X0D01 (io), B2 X0D03 (io), B3 X0D05 (io), B4 X0D07 (io), B5 X0D09 (io), B6 X0D11 (io), B7 X0D13 (io), B8 X0D15 (io), B9 X0D17 (io), B10 X0D19 (io), B11 X0D21 (io), B12 X0D23 (io), B13 X0D70 (io), B15 X0D27 (io), B16 X0D29 (io), B17 X0D31 (io), B18 X0D33 (io), B19 X0D36 (io), C18 X0D38 (io), C19 X0D37 (io), D18 X0D40 (io), D19 X0D39 (io), E18 X0D42 (io), E19 X0D41 (io), F18 X0D34 (io), F19 X0D43/WAKE (io), G18 X1D00 (io), G19 X0D35 (io), H18 X1D02 (io), H19 X1D01 (io), J18 X1D04 (io), J19 X1D03 (io), K18 X1D06 (io), K19 X1D05 (io), L18 X1D08 (io), L19 X1D07 (io), M18 X1D10 (io), M19 X1D09 (io), N18 X1D12 (io), N19 X1D11 (io), P18 X1D14 (io), P19 X1D13 (io), R18 X1D16 (io), R19 X1D15 (io), T18 X1D18 (io), T19 X1D17 (io), U18 X1D20 (io), U19 X1D19 (io), V8 X1D35 (io), V9 X1D43 (io), V10 X1D41 (io), V11 X1D39 (io), V12 X1D37 (io), V13 X1D33 (io), V14 X1D31 (io), V15 X1D29 (io), V16 X1D27 (io), V17 X1D25 (io), V18 X1D22 (io), V19 X1D21 (io), W8 X1D34 (io), W9 X1D42 (io), W10 X1D40 (io), W11 X1D38 (io), W12 X1D36 (io), W13 X1D32 (io), W14 X1D30 (io), W15 X1D28 (io), W16 X1D26 (io), W17 X1D24 (io), W18 X1D70 (io), W19 X1D23 (io)
part B pins: B14 ADC_SAMPLE (in) "Sample Analog input", C1 TDO (out) "Test data output", C2 DEBUG_N (io) "Multi-chip debug", D1 TCK (in) "Test clock", D2 RST_N (in) "Global reset input", E1 TMS (in) "Test mode select", E2 TDI (in) "Test data input", F1 MODE[2] (in) "Boot mode select", F2 MODE[3] (in) "Boot mode select", G2 ADC7 (in) "Analog input", H1 ADC5 (in) "Analog input", H2 ADC6 (in) "Analog input", J1 ADC3 (in) "Analog input", J2 ADC4 (in) "Analog input", K1 ADC1 (in) "Analog input", K2 ADC2 (in) "Analog input", K6 MODE[0] (in) "Boot mode select", K7 MODE[1] (in) "Boot mode select", L2 ADC0 (in) "Analog input", L6 OSC_EXT_N (in) "Use Silicon Oscillator", L7 MODE[4] (in) "Boot mode select", M1 XI/CLK (in) "Crystal Oscillator/Clock Input", N1 XO "Crystal Oscillator Output"
part C pins: A19 VDDIO_OUT (power) "Digital I/O power out", F6 GND (power) "Digital ground", F7 GND (power) "Digital ground", F8 GND (power) "Digital ground", F9 GND (power) "Digital ground", F10 GND (power) "Digital ground", F11 GND (power) "Digital ground", F12 GND (power) "Digital ground", F13 GND (power) "Digital ground", F14 GND (power) "Digital ground", G1 AVDD (power) "Supply and reference voltage", G6 GND (power) "Digital ground", G7 GND (power) "Digital ground", G8 GND (power) "Digital ground", G9 GND (power) "Digital ground", G10 GND (power) "Digital ground", G11 GND (power) "Digital ground", G12 GND (power) "Digital ground", G13 GND (power) "Digital ground", G14 GND (power) "Digital ground", H6 GND (power) "Digital ground", H7 GND (power) "Digital ground", H8 GND (power) "Digital ground", H9 GND (power) "Digital ground", H10 GND (power) "Digital ground", H11 GND (power) "Digital ground", H12 GND (power) "Digital ground", H13 GND (power) "Digital ground", H14 GND (power) "Digital ground", J6 GND (power) "Digital ground", J7 GND (power) "Digital ground", J8 GND (power) "Digital ground", J9 GND (power) "Digital ground", J10 GND (power) "Digital ground", J11 GND (power) "Digital ground", J12 GND (power) "Digital ground", J13 GND (power) "Digital ground", J14 GND (power) "Digital ground", K8 GND (power) "Digital ground", K9 GND (power) "Digital ground", K10 GND (power) "Digital ground", K11 GND (power) "Digital ground", K12 GND (power) "Digital ground", K13 GND (power) "Digital ground", K14 GND (power) "Digital ground", L8 GND (power) "Digital ground", L9 GND (power) "Digital ground", L10 GND (power) "Digital ground", L11 GND (power) "Digital ground", L12 GND (power) "Digital ground", L13 GND (power) "Digital ground", L14 GND (power) "Digital ground", M8 GND (power) "Digital ground", M9 GND (power) "Digital ground", M10 GND (power) "Digital ground", M11 GND (power) "Digital ground", M12 GND (power) "Digital ground", M13 GND (power) "Digital ground", M14 GND (power) "Digital ground", N8 GND (power) "Digital ground", N9 GND (power) "Digital ground", N10 GND (power) "Digital ground", N11 GND (power) "Digital ground", N12 GND (power) "Digital ground", N13 GND (power) "Digital ground", N14 GND (power) "Digital ground", P2 VSUP (power) "Power supply (3V3/5V0)", P6 GND (power) "Digital ground", P7 GND (power) "Digital ground", P8 GND (power) "Digital ground", P9 GND (power) "Digital ground", P10 GND (power) "Digital ground", P11 GND (power) "Digital ground", P12 GND (power) "Digital ground", P13 GND (power) "Digital ground", P14 GND (power) "Digital ground", R1 SW1 (power) "DCDC1 switched output voltage", R2 SW1 (power) "DCDC1 switched output voltage", T1 SW1 (power) "DCDC1 switched output voltage", T2 VDDCORE (power) "Core voltage supply", U1 VDDCORE (power) "Core voltage supply", U2 VDDCORE (power) "Core voltage supply", V1 PGND (power) "Power ground", V2 PGND (power) "Power ground", V3 VDDIO (power) "Digital I/O power", V4 PGND (power) "Power ground", V5 VDD1V8 (power) "1v8 voltage supply", V6 SW2 (power) "DCDC2 switched output voltage", W1 VSUP (power) "Power supply (3V3/5V0)", W2 VSUP (power) "Power supply (3V3/5V0)", W3 VDDIO (power) "Digital I/O power", W4 PGND (power) "Power ground", W5 VDD1V8 (power) "1v8 voltage supply", W6 SW2 (power) "DCDC2 switched output voltage"
part D pins: L1 NC, M2 NC, M6 NC, M7 NC, N2 NC, N6 NC, N7 NC, P1 NC, V7 NC, W7 NC

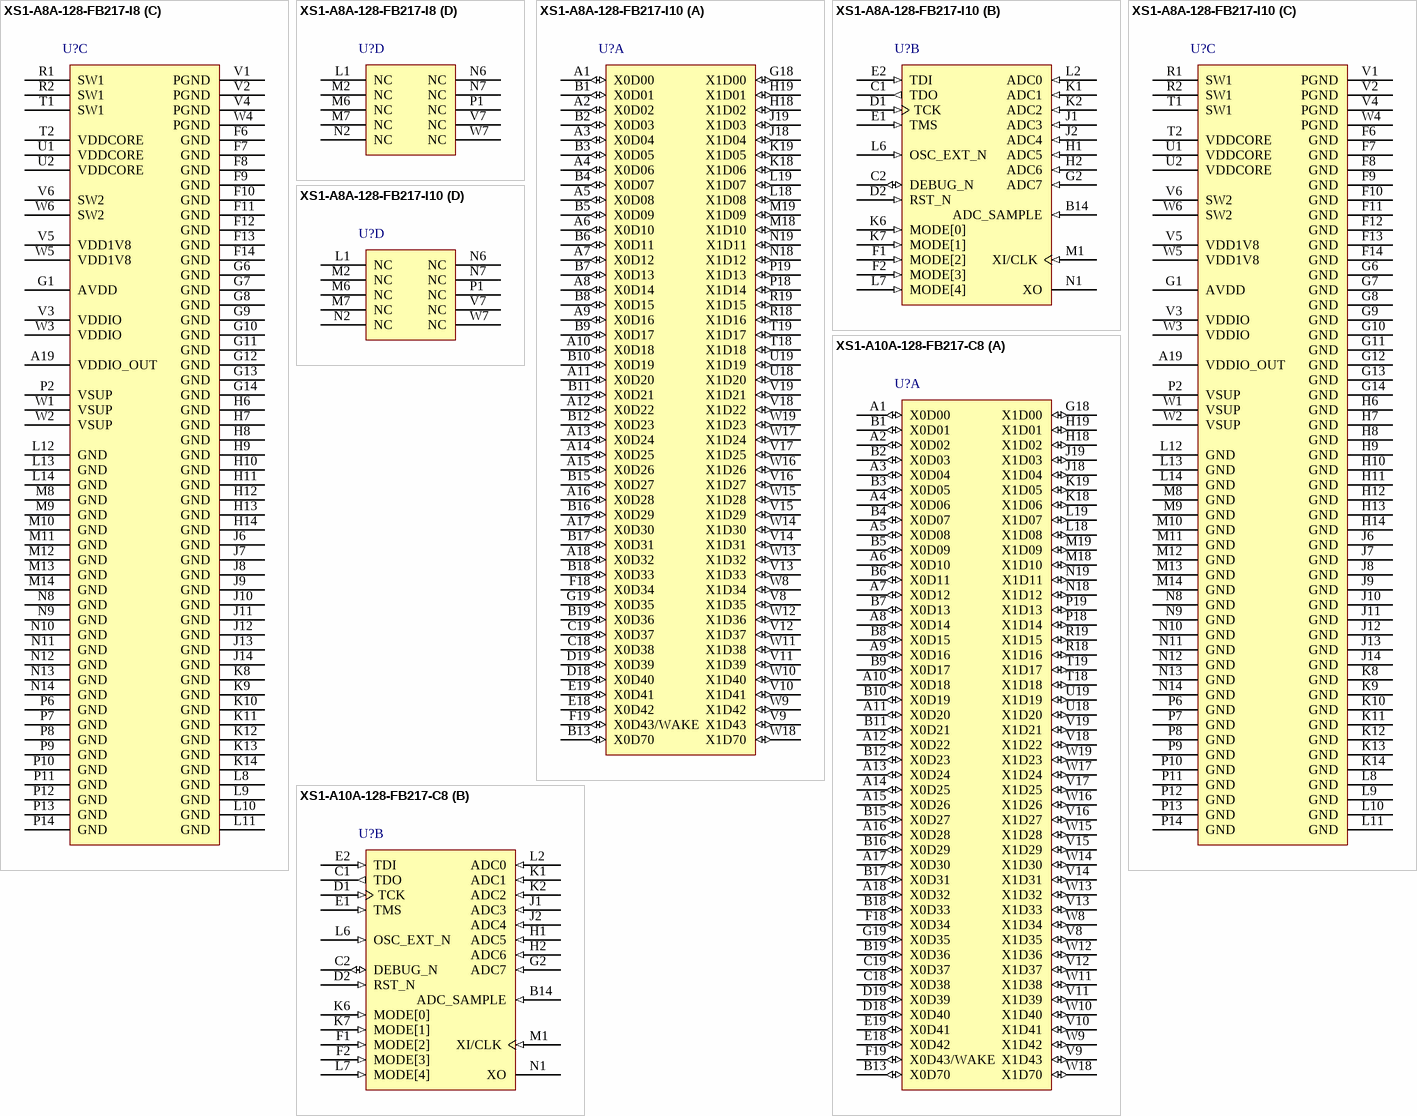
[diagram p3: symbols XS1-A8A-128-FB217-I8 to XS1-A10A-128-FB217-C8]

## XS1-A8A-128-FB217-I8
designator U?
8 Core XS1-A 32-bit Multicore Microcontroller, 90 I/O, -40 to 85 degC, 217-Pin FBGA, Pb-Free; PartNumber: XS1-A8A-128-FB217-I8; Cores/Tiles: 8/2; I/O: 90; RAM: 128 kB; Speed Grade: 800 MIPS; DatasheetVersion: Rev. X5601; PackageReference: FBGA-217; PackageDescription: 217-Pin Fine Ball Grid Array, Body 16 x 16 mm, Pitch 0.8 mm; Temperature Range: -40 to 85 degC; Mounting Technology: Surface Mount; Code_JEDEC: MO-275; ComponentLink1Description: Manufacturer URL; ComponentLink1URL: http://www.xmos.com/; ComponentLink2Description: Datasheet; ComponentLink2URL: https://www.xmos.com/en/download/public/XS1-A8A-128-FB217-Datasheet%28X5601H%29.pdf; ComponentLink3Description: Package Specification; ComponentLink3URL: https://www.xmos.com/en/download/public/XS1-A16A-128-FB217-Datasheet%28X5719H%29.pdf
footprint XMOS-FBGA-217 (BGA, 217-Balls, Body 16x16mm, Pitch 0.8mm)
part A pins: A1 X0D00 (io), A2 X0D02 (io), A3 X0D04 (io), A4 X0D06 (io), A5 X0D08 (io), A6 X0D10 (io), A7 X0D12 (io), A8 X0D14 (io), A9 X0D16 (io), A10 X0D18 (io), A11 X0D20 (io), A12 X0D22 (io), A13 X0D24 (io), A14 X0D25 (io), A15 X0D26 (io), A16 X0D28 (io), A17 X0D30 (io), A18 X0D32 (io), B1 X0D01 (io), B2 X0D03 (io), B3 X0D05 (io), B4 X0D07 (io), B5 X0D09 (io), B6 X0D11 (io), B7 X0D13 (io), B8 X0D15 (io), B9 X0D17 (io), B10 X0D19 (io), B11 X0D21 (io), B12 X0D23 (io), B13 X0D70 (io), B15 X0D27 (io), B16 X0D29 (io), B17 X0D31 (io), B18 X0D33 (io), B19 X0D36 (io), C18 X0D38 (io), C19 X0D37 (io), D18 X0D40 (io), D19 X0D39 (io), E18 X0D42 (io), E19 X0D41 (io), F18 X0D34 (io), F19 X0D43/WAKE (io), G18 X1D00 (io), G19 X0D35 (io), H18 X1D02 (io), H19 X1D01 (io), J18 X1D04 (io), J19 X1D03 (io), K18 X1D06 (io), K19 X1D05 (io), L18 X1D08 (io), L19 X1D07 (io), M18 X1D10 (io), M19 X1D09 (io), N18 X1D12 (io), N19 X1D11 (io), P18 X1D14 (io), P19 X1D13 (io), R18 X1D16 (io), R19 X1D15 (io), T18 X1D18 (io), T19 X1D17 (io), U18 X1D20 (io), U19 X1D19 (io), V8 X1D35 (io), V9 X1D43 (io), V10 X1D41 (io), V11 X1D39 (io), V12 X1D37 (io), V13 X1D33 (io), V14 X1D31 (io), V15 X1D29 (io), V16 X1D27 (io), V17 X1D25 (io), V18 X1D22 (io), V19 X1D21 (io), W8 X1D34 (io), W9 X1D42 (io), W10 X1D40 (io), W11 X1D38 (io), W12 X1D36 (io), W13 X1D32 (io), W14 X1D30 (io), W15 X1D28 (io), W16 X1D26 (io), W17 X1D24 (io), W18 X1D70 (io), W19 X1D23 (io)
part B pins: B14 ADC_SAMPLE (in) "Sample Analog input", C1 TDO (out) "Test data output", C2 DEBUG_N (io) "Multi-chip debug", D1 TCK (in) "Test clock", D2 RST_N (in) "Global reset input", E1 TMS (in) "Test mode select", E2 TDI (in) "Test data input", F1 MODE[2] (in) "Boot mode select", F2 MODE[3] (in) "Boot mode select", G2 ADC7 (in) "Analog input", H1 ADC5 (in) "Analog input", H2 ADC6 (in) "Analog input", J1 ADC3 (in) "Analog input", J2 ADC4 (in) "Analog input", K1 ADC1 (in) "Analog input", K2 ADC2 (in) "Analog input", K6 MODE[0] (in) "Boot mode select", K7 MODE[1] (in) "Boot mode select", L2 ADC0 (in) "Analog input", L6 OSC_EXT_N (in) "Use Silicon Oscillator", L7 MODE[4] (in) "Boot mode select", M1 XI/CLK (in) "Crystal Oscillator/Clock Input", N1 XO "Crystal Oscillator Output"
part C pins: A19 VDDIO_OUT (power) "Digital I/O power out", F6 GND (power) "Digital ground", F7 GND (power) "Digital ground", F8 GND (power) "Digital ground", F9 GND (power) "Digital ground", F10 GND (power) "Digital ground", F11 GND (power) "Digital ground", F12 GND (power) "Digital ground", F13 GND (power) "Digital ground", F14 GND (power) "Digital ground", G1 AVDD (power) "Supply and reference voltage", G6 GND (power) "Digital ground", G7 GND (power) "Digital ground", G8 GND (power) "Digital ground", G9 GND (power) "Digital ground", G10 GND (power) "Digital ground", G11 GND (power) "Digital ground", G12 GND (power) "Digital ground", G13 GND (power) "Digital ground", G14 GND (power) "Digital ground", H6 GND (power) "Digital ground", H7 GND (power) "Digital ground", H8 GND (power) "Digital ground", H9 GND (power) "Digital ground", H10 GND (power) "Digital ground", H11 GND (power) "Digital ground", H12 GND (power) "Digital ground", H13 GND (power) "Digital ground", H14 GND (power) "Digital ground", J6 GND (power) "Digital ground", J7 GND (power) "Digital ground", J8 GND (power) "Digital ground", J9 GND (power) "Digital ground", J10 GND (power) "Digital ground", J11 GND (power) "Digital ground", J12 GND (power) "Digital ground", J13 GND (power) "Digital ground", J14 GND (power) "Digital ground", K8 GND (power) "Digital ground", K9 GND (power) "Digital ground", K10 GND (power) "Digital ground", K11 GND (power) "Digital ground", K12 GND (power) "Digital ground", K13 GND (power) "Digital ground", K14 GND (power) "Digital ground", L8 GND (power) "Digital ground", L9 GND (power) "Digital ground", L10 GND (power) "Digital ground", L11 GND (power) "Digital ground", L12 GND (power) "Digital ground", L13 GND (power) "Digital ground", L14 GND (power) "Digital ground", M8 GND (power) "Digital ground", M9 GND (power) "Digital ground", M10 GND (power) "Digital ground", M11 GND (power) "Digital ground", M12 GND (power) "Digital ground", M13 GND (power) "Digital ground", M14 GND (power) "Digital ground", N8 GND (power) "Digital ground", N9 GND (power) "Digital ground", N10 GND (power) "Digital ground", N11 GND (power) "Digital ground", N12 GND (power) "Digital ground", N13 GND (power) "Digital ground", N14 GND (power) "Digital ground", P2 VSUP (power) "Power supply (3V3/5V0)", P6 GND (power) "Digital ground", P7 GND (power) "Digital ground", P8 GND (power) "Digital ground", P9 GND (power) "Digital ground", P10 GND (power) "Digital ground", P11 GND (power) "Digital ground", P12 GND (power) "Digital ground", P13 GND (power) "Digital ground", P14 GND (power) "Digital ground", R1 SW1 (power) "DCDC1 switched output voltage", R2 SW1 (power) "DCDC1 switched output voltage", T1 SW1 (power) "DCDC1 switched output voltage", T2 VDDCORE (power) "Core voltage supply", U1 VDDCORE (power) "Core voltage supply", U2 VDDCORE (power) "Core voltage supply", V1 PGND (power) "Power ground", V2 PGND (power) "Power ground", V3 VDDIO (power) "Digital I/O power", V4 PGND (power) "Power ground", V5 VDD1V8 (power) "1v8 voltage supply", V6 SW2 (power) "DCDC2 switched output voltage", W1 VSUP (power) "Power supply (3V3/5V0)", W2 VSUP (power) "Power supply (3V3/5V0)", W3 VDDIO (power) "Digital I/O power", W4 PGND (power) "Power ground", W5 VDD1V8 (power) "1v8 voltage supply", W6 SW2 (power) "DCDC2 switched output voltage"
part D pins: L1 NC, M2 NC, M6 NC, M7 NC, N2 NC, N6 NC, N7 NC, P1 NC, V7 NC, W7 NC